# Altium integrated library power-protection.IntLib: 9 symbols
Pins are listed as number, name and electrical type; pins without a type are passive.

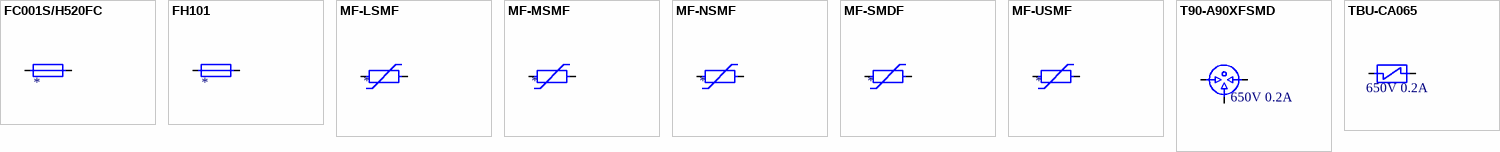
[diagram p0: symbols FC001S/H520FC to TBU-CA065]

## FC001S/H520FC
designator F?, comment FC001S  (value not drawn)
Fuse 5x20mm, Holder FC001S/H520FC/K234211; RevisionDate: 11-01-2018; Name: FC001S; Value: *
footprint FC001S (Chip Resistor, 2-Leads, Body 7,40x5,15mm, IPC Medium Density)
pins: 1, 2

## FH101
designator F?  (value not drawn)
Fuse 5x20mm, Holder FH101/FH101C; RevisionDate: 11-01-2018; Name: FH101; Value: *
footprint FH101 (Chip Resistor, 2-Leads, Body 7,40x5,15mm, IPC Medium Density)
footprint FH101C (Chip Resistor, 2-Leads, Body 7,40x5,15mm, IPC Medium Density)
pins: 1, 2

## MF-LSMF
designator F?  (value not drawn)
PTC fuse 2920; RevisionDate: 11-01-2018; Name: MF-LSMF; Value: *
footprint 2920 (Chip Resistor, 2-Leads, Body 7,40x5,15mm, IPC Medium Density)
pins: 1, 2

## MF-MSMF
designator F?
PTC fuse 1812; Name: MF-MSMF; RevisionDate: 11-01-2018; Value: *
footprint 1812 (Chip Resistor, 2-Leads, Body 4,50x3,20mm, IPC Medium Density)
pins: 1, 2

## MF-NSMF
designator F?  (value not drawn)
PTC fuse 1206; Name: MF-NSMF; RevisionDate: 11-01-2018; Value: *
footprint 1206 (Chip Resistor, 2-Leads, Body 3,13x1,55mm, IPC Medium Density)
pins: 1, 2

## MF-SMDF
designator F?  (value not drawn)
PTC fuse 2018; Name: MF-SMDF; RevisionDate: 11-01-2018; Value: *
footprint 2018 (Chip Resistor, 2-Leads, Body 5,10x4,65mm, IPC Medium Density)
pins: 1, 2

## MF-USMF
designator F?  (value not drawn)
PTC fuse 1210; Name: MF-USMF; RevisionDate: 11-01-2018; Value: *
footprint 1210 (Chip Resistor, 2-Leads, Body 3,20x2,50mm, IPC Medium Density)
pins: 1, 2

## T90-A90XFSMD
designator FV?, comment value 650V 0.2A  (hidden comment: TBU-CA065-200-WH)
TBU device 1us 650V 0.2A; Name: TBU-CA065-200-WH; RevisionDate: 11-01-2018; Package: DFN
footprint T90-A90 (Chip, 3-Leads, Body 5,00x8,20mm, IPC Medium Density)
pins: 1, 2, 3

## TBU-CA065
designator FP?, comment value 650V 0.2A  (hidden comment: TBU-CA065-200-WH)
TBU device 1us 650V 0.2A; Name: TBU-CA065-200-WH; RevisionDate: 11-01-2018; Package: DFN
footprint DFN (Chip, 3-Leads, Body 4,50x3,20mm, IPC Medium Density)
pins: 1, 3